# EAGLE library part LYNXCART (library atarilynx)
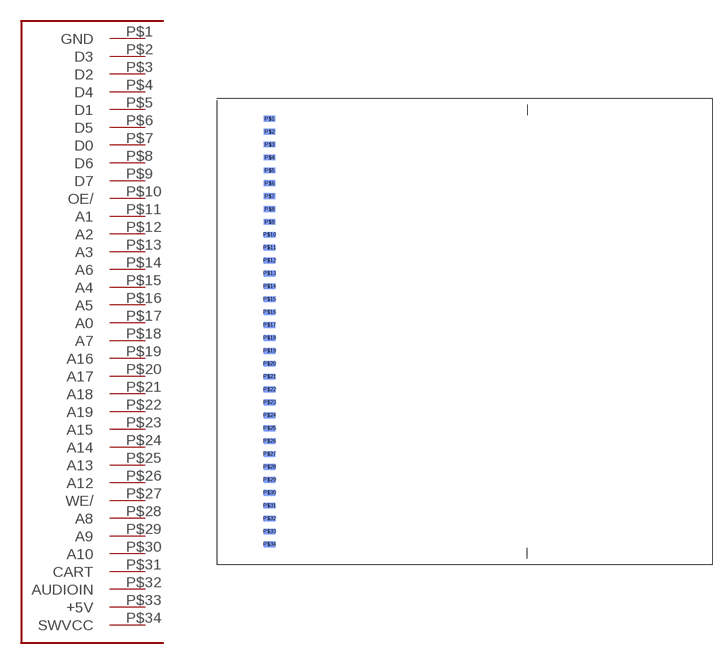
[diagram p0: symbol with the pads of LYNXCART; footprint LYNXCART]

Designator prefix CON

## LYNXCART  [LYNXCART]
P$1  GND  pwr
P$2  D3
P$3  D2
P$4  D4
P$5  D1
P$6  D5
P$7  D0
P$8  D6
P$9  D7
P$10  OE/  out
P$11  A1  out
P$12  A2  out
P$13  A3  out
P$14  A6  out
P$15  A4  out
P$16  A5  out
P$17  A0  out
P$18  A7  out
P$19  A16  out
P$20  A17  out
P$21  A18  out
P$22  A19  out
P$23  A15  out
P$24  A14  out
P$25  A13  out
P$26  A12  out
P$27  WE/  out
P$28  A8  out
P$29  A9  out
P$30  A10  out
P$31  CART  in
P$32  AUDIOIN
P$33  +5V  pwr
P$34  SWVCC  out

## Footprint LYNXCART (pad centres in mm)
Atari Lynx cart connector
smd 1.422 x 0.711 bottom: P$1 0,26.218; P$2 0,24.63; P$3 0,23.041; P$4 0,21.451; P$5 0,19.863; P$6 0,18.273; P$7 0,16.684; P$8 0,15.095; P$9 0,13.507; P$10 0,11.918; P$11 0,10.329; P$12 0,8.739; P$13 0,7.151; P$14 0,5.561; P$15 0,3.973; P$16 0,2.384; P$17 0,0.794; P$18 0,-0.794; P$19 0,-2.384; P$20 0,-3.973; P$21 0,-5.561; P$22 0,-7.151; P$23 0,-8.739; P$24 0,-10.329; P$25 0,-11.918; P$26 0,-13.507; P$27 0,-15.095; P$28 0,-16.684; P$29 0,-18.273; P$30 0,-19.863; P$31 0,-21.451; P$32 0,-23.041; P$33 0,-24.63; P$34 0,-26.218